# Altium integrated library MergenElektronik_Connectors_MicroSD.IntLib: 1 symbol
Pins are listed as number, name and electrical type; pins without a type are passive.

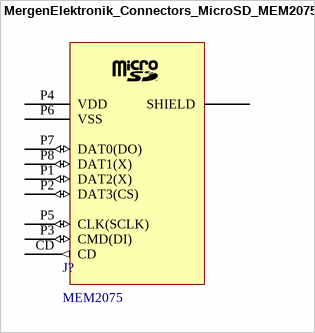
[diagram p0: symbol MergenElektronik_Connectors_MicroSD_MEM2075]

## MergenElektronik_Connectors_MicroSD_MEM2075
designator J?, comment MEM2075
Mergen Elektronik - Connectors - SD Card Connectors - MEM2075; Manufacturer: GCT; Manufacturer Number: MEM2075-00-140-01-A; Model: Micro SD; Voltage Rating: 30VDC/AC; Current Rating: 500 mA per pin.; Farnell Number: 2895610; Value: MEM2075; Temperature: -25°C up to +85°C; Package: MEM2075; Mounting Type: Surface Mount; Mouser Number: 640-MEM20750014001A; Digi-Key Number: 2073-MEM2075-00-140-01-ACT-ND; Supplier 1: Digi-Key; Supplier Part Number 1: 2073-MEM2075-00-140-01-ADKR-ND; Supplier 2: Mouser; Supplier Part Number 2: 640-MEM20750014001A
footprint MergenElektronik_Connectors_MicroSD_MEM2075 (Mergen Elektronik - Connectors - SD Card Connectors - MEM2075)
pins: CD (out), P1 DAT2(X) (io), P2 DAT3(CS) (io), P3 CMD(DI) (io), P4 VDD (power), P5 CLK(SCLK) (io), P6 VSS (power), P7 DAT0(DO) (io), P8 DAT1(X) (io), SHIELD